# EAGLE library part PIC16F18456-I/SS (library EW_IC_Processors)
8 Bit CMOS Microcontrollers
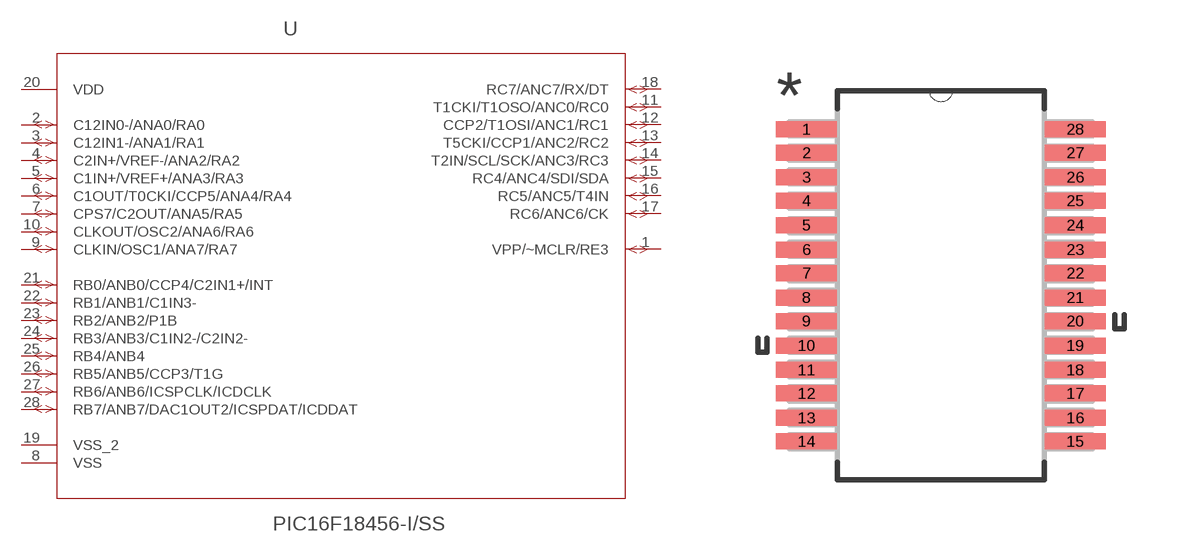
[diagram p5: symbol with the pads of SOP65P780X200-28N; footprint SOP65P780X200-28N]

Designator prefix -

## PIC16F18456-I/SS (DESCRIPTION: IC, 8BIT MCU; MPN: PIC16F1933-I/SS; OC_FARNELL: 1755815; OC_NEWARK: 08R1939; PACKAGE: TSSOP-28; SUPPLIER: Microchip Technology)  [SOP65P780X200-28N]
1  VPP/~MCLR/RE3
2  C12IN0-/ANA0/RA0
3  C12IN1-/ANA1/RA1
4  C2IN+/VREF-/ANA2/RA2
5  C1IN+/VREF+/ANA3/RA3
6  C1OUT/T0CKI/CCP5/ANA4/RA4
7  CPS7/C2OUT/ANA5/RA5
8  VSS  pwr
9  CLKIN/OSC1/ANA7/RA7
10  CLKOUT/OSC2/ANA6/RA6
11  T1CKI/T1OSO/ANC0/RC0
12  CCP2/T1OSI/ANC1/RC1
13  T5CKI/CCP1/ANC2/RC2
14  T2IN/SCL/SCK/ANC3/RC3
15  RC4/ANC4/SDI/SDA
16  RC5/ANC5/T4IN
17  RC6/ANC6/CK
18  RC7/ANC7/RX/DT
19  VSS_2  pwr
20  VDD  pwr
21  RB0/ANB0/CCP4/C2IN1+/INT
22  RB1/ANB1/C1IN3-
23  RB2/ANB2/P1B
24  RB3/ANB3/C1IN2-/C2IN2-
25  RB4/ANB4
26  RB5/ANB5/CCP3/T1G
27  RB6/ANB6/ICSPCLK/ICDCLK
28  RB7/ANB7/DAC1OUT2/ICSPDAT/ICDDAT

## Footprint SOP65P780X200-28N (pad centres in mm)
smd 1.651 x 0.432: 1 -3.632,4.216; 2 -3.632,3.581; 3 -3.632,2.921; 4 -3.632,2.286; 5 -3.632,1.626; 6 -3.632,0.965; 7 -3.632,0.33; 8 -3.632,-0.33; 9 -3.632,-0.965; 10 -3.632,-1.626; 11 -3.632,-2.286; 12 -3.632,-2.921; 13 -3.632,-3.581; 14 -3.632,-4.216; 15 3.632,-4.216; 16 3.632,-3.581; 17 3.632,-2.921; 18 3.632,-2.286; 19 3.632,-1.626; 20 3.632,-0.965; 21 3.632,-0.33; 22 3.632,0.33; 23 3.632,0.965; 24 3.632,1.626; 25 3.632,2.286; 26 3.632,2.921; 27 3.632,3.581; 28 3.632,4.216